# EAGLE library part 74ACT245PC (library Fairchild_By_element14_Batch_1)
Octal Bidirectional Transceiver
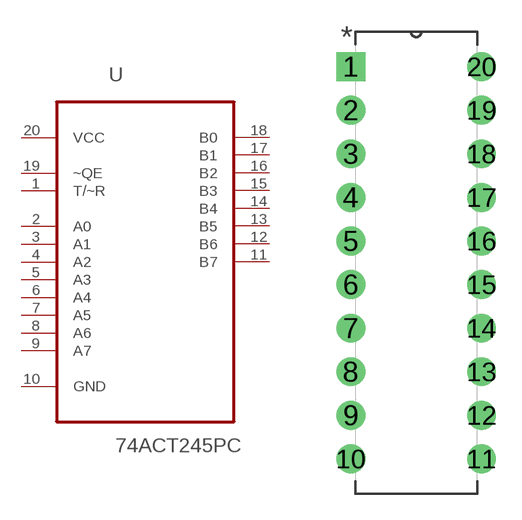
[diagram p45: symbol with the pads of DIP254P762X533-20; footprint DIP254P762X533-20]

Designator prefix U

## 74ACT245PC (MPN: 74ACT245PC; OC_FARNELL: 1014030; OC_NEWARK: -; PACKAGE: PDIP-20; SUPPLIER: FAIRCHILD SEMICONDUCTOR)  [DIP254P762X533-20]
1  T/~R  in
2  A0
3  A1
4  A2
5  A3
6  A4
7  A5
8  A6
9  A7
10  GND  pas
11  B7
12  B6
13  B5
14  B4
15  B3
16  B2
17  B1
18  B0
19  ~QE  in
20  VCC  pwr

## Footprint DIP254P762X533-20 (pad centres in mm)
drill 1.118 square: 1 -7.62,22.86
drill 1.118: 2 -7.62,20.32; 3 -7.62,17.78; 4 -7.62,15.24; 5 -7.62,12.7; 6 -7.62,10.16; 7 -7.62,7.62; 8 -7.62,5.08; 9 -7.62,2.54; 10 -7.62,0; 11 0,0; 12 0,2.54; 13 0,5.08; 14 0,7.62; 15 0,10.16; 16 0,12.7; 17 0,15.24; 18 0,17.78; 19 0,20.32; 20 0,22.86